# Altium schematic symbol library SCH - POWER - SWITCHMODE - TI TPS53313RGE.SchLib: 1 symbol
Pins are listed as number, name and electrical type; pins without a type are passive.

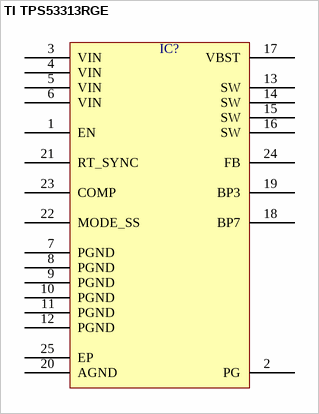
[diagram p0: symbol TI TPS53313RGE]

## TI TPS53313RGE
designator IC?  (value not drawn)
pins: 1 EN, 2 PG, 3 VIN, 4 VIN, 5 VIN, 6 VIN, 7 PGND, 8 PGND, 9 PGND, 10 PGND, 11 PGND, 12 PGND, 13 SW, 14 SW, 15 SW, 16 SW, 17 VBST, 18 BP7, 19 BP3, 20 AGND, 21 RT_SYNC, 22 MODE_SS, 23 COMP, 24 FB, 25 EP